# Altium footprint library Footprints.PcbLib: 146 footprints (part 1 of 10)
Each footprint in its own frame and in the unit in brackets; x right, y up, seen from the top. Pads: shape width x height; smd on the part's side, far side on the other; paste and mask are expansions set on the pad; w line width, h text height; cw(c..) or ccw(c..) is an arc to the next point about the centre after c.
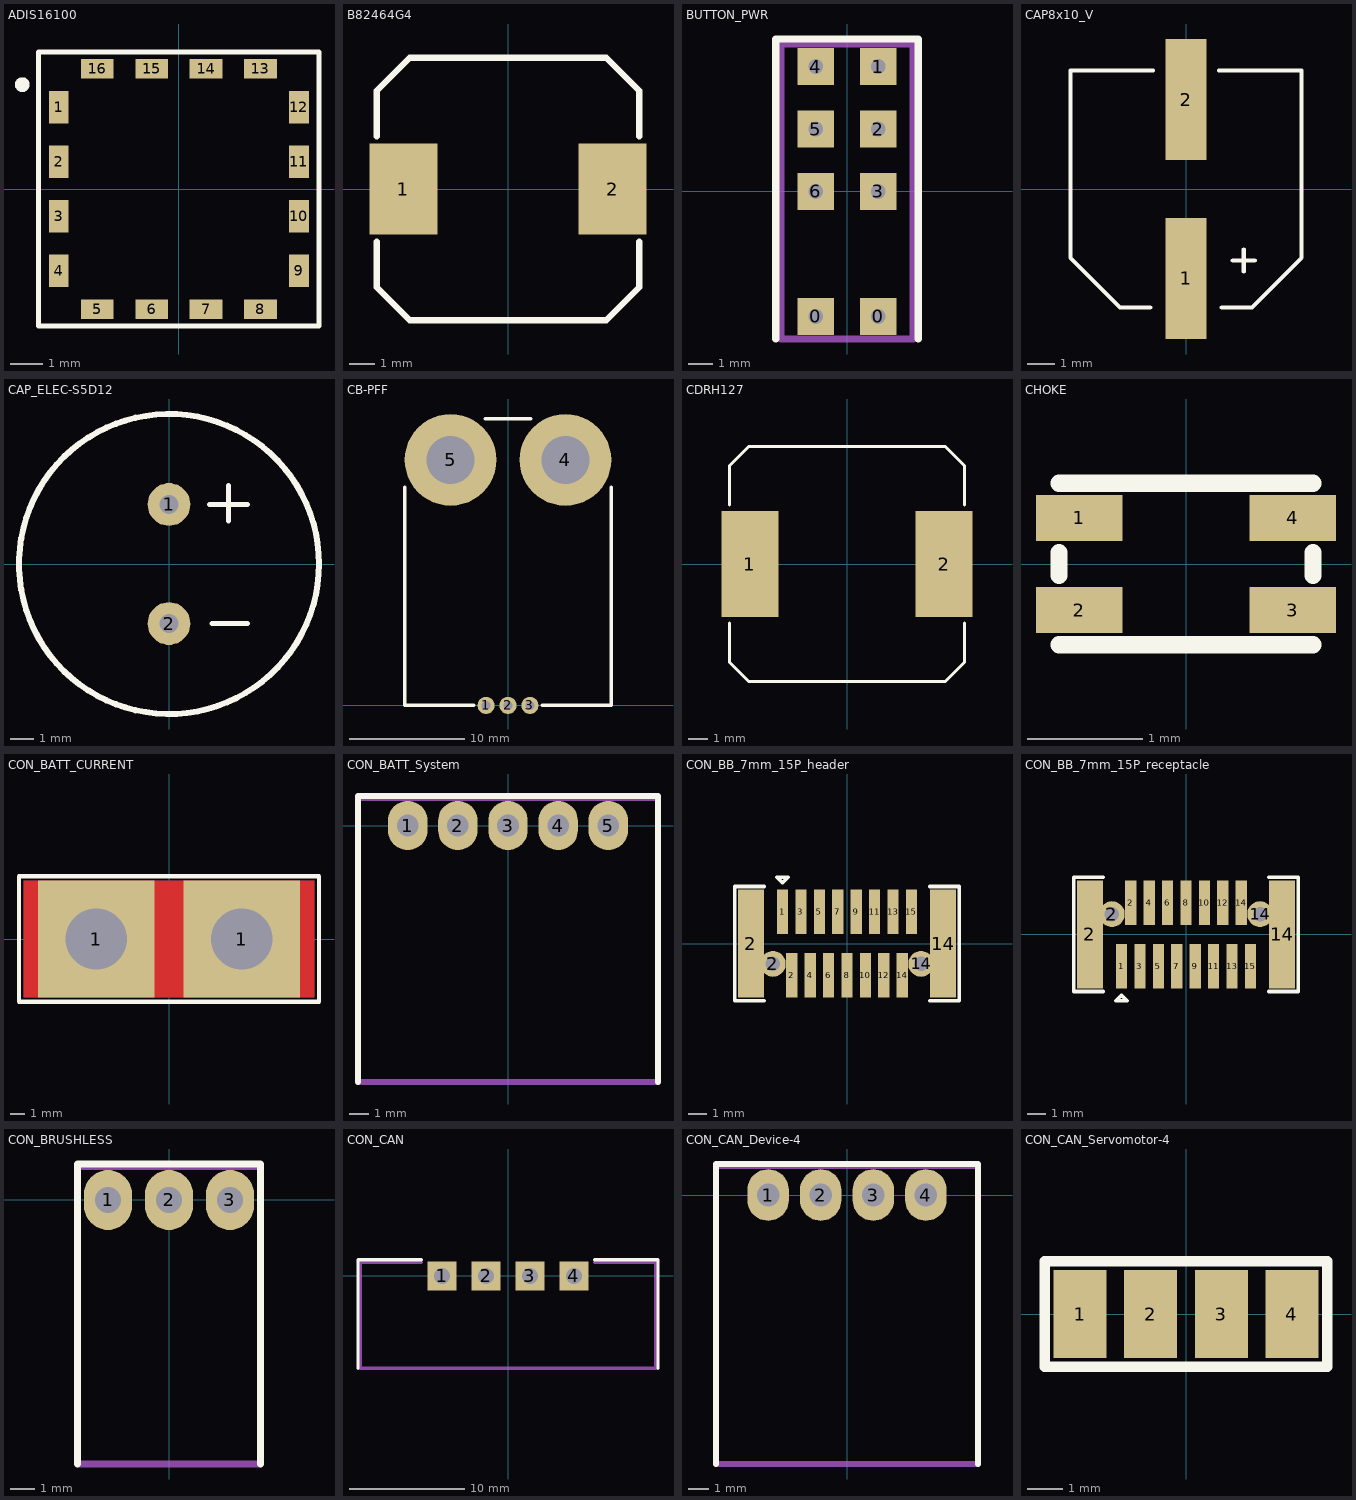
[diagram p0: the footprints below, top view; thin cyan lines are the x and y axes]

## ADIS16100 [mm] "Gyroscope"
pads (16):
  rect 0.6x1 smd: 1(-3.686,2.505) 2(-3.686,0.835) 3(-3.686,-0.835) 4(-3.686,-2.505) 9(3.686,-2.505) 10(3.686,-0.835) 11(3.686,0.835) 12(3.686,2.505)
  rect 1x0.6 smd: 5(-2.505,-3.686) 6(-0.835,-3.686) 7(0.835,-3.686) 8(2.505,-3.686) 13(2.505,3.686) 14(0.835,3.686) 15(-0.835,3.686) 16(-2.505,3.686)
Top Overlay:
  circle w0.254: c-4.8,3.2 r0.1
  lines w0.15: -4.3,-4.2 4.3,-4.2 4.3,4.2 -4.3,4.2 -4.3,-4.2

## B82464G4 [mm] "Coil footprint"
pads (2):
  rect 2.7x3.6 smd: 1(-4.15,0) 2(4.15,0)
Top Overlay:
  lines w0.254: -5.2,-2.1 -5.2,-3.9 -3.9,-5.2 3.9,-5.2 5.2,-3.9 5.2,-2.1 ; -5.2,2.1 -5.2,3.9 -3.9,5.2 3.9,5.2 5.2,3.9 5.2,2.1

## BUTTON_PWR [mm] "SPDT Illuminated Switch"
height 7.4
pads (8):
  rect 1.5x1.5 hole 0.6: 0(-1.27,-5.08) 0(1.27,-5.08) 1(1.27,5.08) 2(1.27,2.54) 3(1.27,0) 4(-1.27,5.08) 5(-1.27,2.54) 6(-1.27,0)
Top Overlay:
  lines w0.3: -2.9,-6 -2.9,6.2 2.9,6.2 2.9,-6
Mechanical 1:
  lines w0.3: -2.7,-6 2.7,-6 2.7,6 -2.7,6 -2.7,-6

## CAP8x10_V [mm] "Electrolytic Capacitor"
pads (2):
  rect 1.5x4.4 smd: 1(0,-3.25) 2(0,3.25)
Top Overlay:
  lines w0.15: -1.3,-4.3 -2.4,-4.3 -4.2,-2.5 -4.2,4.3 -1.2,4.3 ; 1.2,4.3 4.2,4.3 4.2,-2.5 2.4,-4.3 1.3,-4.3 ; 1.7,-2.6 2.5,-2.6 ; 2.1,-3 2.1,-2.2

## CAP_ELEC-S5D12 [mm] "Electrolytic capacitor 12.5mm diameter, 5mm terminal spacing"
height 15
pads (2):
  round 1.8 hole 0.8: 1(0,2.5) 2(0,-2.5)
Top Overlay:
  circle w0.254: c0,0 r6.3
  lines w0.2: 1.7,2.5 3.3,2.5 ; 1.8,-2.5 3.3,-2.5 ; 2.5,1.8 2.5,3.3

## CB-PFF [mm] "High Current Sensor"
height 7
pads (5):
  round 1.5 hole 0.8: 1(-1.91,0) 2(0,0) 3(1.91,0)
  round 8 hole 4.2: 4(5,21.4) 5(-5,21.4)
Top Overlay:
  lines w0.3: -9,19 -9,0 -3,0 ; -2,25 2,25 ; 3,0 9,0 9,19

## CDRH127 [mm] "Coil footprint"
pads (2):
  rect 2.9x5.4 smd: 1(-4.95,0) 2(4.95,0)
Top Overlay:
  lines w0.15: -6,-3 -6,-5 -5,-6 5,-6 6,-5 6,-3 ; -6,3 -6,5 -5,6 5,6 6,5 6,3

## CHOKE [mm] "Common mode choke"
height 1.3
pads (4):
  rect 0.75x0.4 smd: 1(-0.925,0.4) 2(-0.925,-0.4) 3(0.925,-0.4) 4(0.925,0.4)
Top Overlay:
  lines w0.15: -1.1,-0.7 1.1,-0.7 ; -1.1,-0.1 -1.1,0.1 ; -1.1,0.7 1.1,0.7 ; 1.1,-0.1 1.1,0.1

## CON_BATT_CURRENT [mm] "Current Probe for Motor Battery"
pads (2):
  rect 8x8 hole 4.2: 1(-5,0) 1(5,0)
Top Layer:
  rectangle: -10,-4 10,4
Bottom Layer:
  rectangle: -10,-4 10,4
Top Overlay:
  lines w0.3: -10.3,-4.3 -10.3,4.3 10.3,4.3 10.3,-4.3 -10.3,-4.3
Bottom Overlay:
  lines w0.3: -10.3,-4.3 -10.3,4.3 10.3,4.3 10.3,-4.3 -10.3,-4.3
Top Solder:
  rectangle: -10,-5 10,5
Bottom Solder:
  rectangle: -10,-5 10,5

## CON_BATT_System [mm] "5-pin low current battery connector"
height 4.2
pads (5):
  oval 2x2.5 hole 1.1: 1(-5.08,0) 2(-2.54,0) 3(0,0) 4(2.54,0) 5(5.08,0)
Top Overlay:
  lines w0.3: -7.6,-13 -7.6,-1.5 -7.6,1.5 7.6,1.5 7.6,-1.5 7.6,-13
Mechanical 1:
  lines w0.3: -7.6,-6.6 -7.6,-1.5 -7.6,1.4 ; 7.6,-6.6 7.6,-1.5 7.6,1.4 ; -7.6,1.4 -7.6,-13 7.6,-13 7.6,1.4 ; -7.6,1.4 7.6,1.4

## CON_BB_7mm_15P_header [mm] "Board to Board Connector GPS module (Header)"
height 4.15
pads (19):
  rect 0.61x2.41 smd: 1(-3.5,1.72) 2(-3,-1.72) 3(-2.5,1.72) 4(-2,-1.72) 5(-1.5,1.72) 6(-1,-1.72) 7(-0.5,1.72) 8(0,-1.72) 9(0.5,1.72) 10(1,-1.72) 11(1.5,1.72) 12(2,-1.72) 13(2.5,1.72) 14(3,-1.72) 15(3.5,1.72)
  rect 1.4x5.85 smd: 2(-5.22,0) 14(5.22,0)
  round 1.4 hole 0.8: 2(-4.026,-1.1) 14(4.026,-1.1)
Top Overlay:
  lines w0.2: -4.5,-3.1 -6.1,-3.1 -6.1,3.1 -4.5,3.1 ; 4.5,-3.1 6.1,-3.1 6.1,3.1 4.5,3.1 ; -3.8,3.6 -3.5,3.3 -3.2,3.6 -3.8,3.6

## CON_BB_7mm_15P_receptacle [mm] "Board to Board Connector GPS module (Receptacle)"
height 4.15
pads (19):
  rect 0.61x2.41 smd: 1(-3.5,-1.72) 2(-3,1.72) 3(-2.5,-1.72) 4(-2,1.72) 5(-1.5,-1.72) 6(-1,1.72) 7(-0.5,-1.72) 8(0,1.72) 9(0.5,-1.72) 10(1,1.72) 11(1.5,-1.72) 12(2,1.72) 13(2.5,-1.72) 14(3,1.72) 15(3.5,-1.72)
  rect 1.4x5.85 smd: 2(-5.22,0) 14(5.22,0)
  round 1.4 hole 0.8: 2(-4.026,1.1) 14(4.026,1.1)
Top Overlay:
  lines w0.2: -4.5,-3.1 -6.1,-3.1 -6.1,3.1 -4.5,3.1 ; 4.5,-3.1 6.1,-3.1 6.1,3.1 4.5,3.1 ; -3.8,-3.6 -3.2,-3.6 -3.5,-3.3 -3.8,-3.6

## CON_BRUSHLESS [mm] "3-pin brushless motor feedback connector"
height 3.6
pads (3):
  oval 2x2.5 hole 1.1: 1(-2.54,0) 2(0,0) 3(2.54,0)
Top Overlay:
  lines w0.3: -3.81,-11 -3.81,-1.5 -3.81,1.49 -3.8,1.5 3.81,1.5 3.81,-1.5 3.81,-11
Mechanical 1:
  lines w0.3: -3.81,-11 -3.81,1.4 3.81,1.4 3.81,-11 -3.81,-11

## CON_CAN [mm] "4-pin CAN Connector"
height 7.25
pads (4):
  rect 2.5x2.5 hole 1.4: 1(-5.715,0) 2(-1.905,0) 3(1.905,0) 4(5.715,0)
Top Overlay:
  lines w0.3: -13,-8 -13,1.4 -7.5,1.4 ; 7.5,1.4 13,1.4 13,-8
Mechanical 1:
  lines w0.3: -7.5,1.2 -12.8,1.2 -12.8,-8 12.8,-8 12.8,1.2 7.5,1.2

## CON_CAN_Device-4 [mm] "4-pin CAN connector - device side"
height 4.2
pads (4):
  oval 2x2.5 hole 1.1: 1(-3.81,0) 2(-1.27,0) 3(1.27,0) 4(3.81,0)
Top Overlay:
  lines w0.3: -6.33,-13 -6.33,-1.5 -6.33,1.5 6.3,1.5 ; 6.33,-13 6.33,-1.5 6.33,1.5
Mechanical 1:
  lines w0.3: -6.33,-6.6 -6.33,-1.5 -6.33,1.4 ; 6.33,-6.6 6.33,-1.5 6.33,1.4 ; -6.33,1.4 6.33,1.4 ; -6.33,1.4 -6.33,-13 6.33,-13 6.33,1.4

## CON_CAN_Servomotor-4 [mm] "4-pin CAN connector - servomotor side"
height 2
pads (4):
  rect 1.5x2.5 smd: 1(-3,0) 2(-1,0) 3(1,0) 4(3,0)
Top Overlay:
  lines w0.3: -4,-1.5 -4,1.5 4,1.5 4,-1.5 -4,-1.5